# Altium footprint library PcbLib1.PcbLib: 46 footprints (part 3 of 3)
Each footprint in its own frame and in the unit in brackets; x right, y up, seen from the top. Pads: shape width x height; smd on the part's side, far side on the other; paste and mask are expansions set on the pad; w line width, h text height; cw(c..) or ccw(c..) is an arc to the next point about the centre after c.
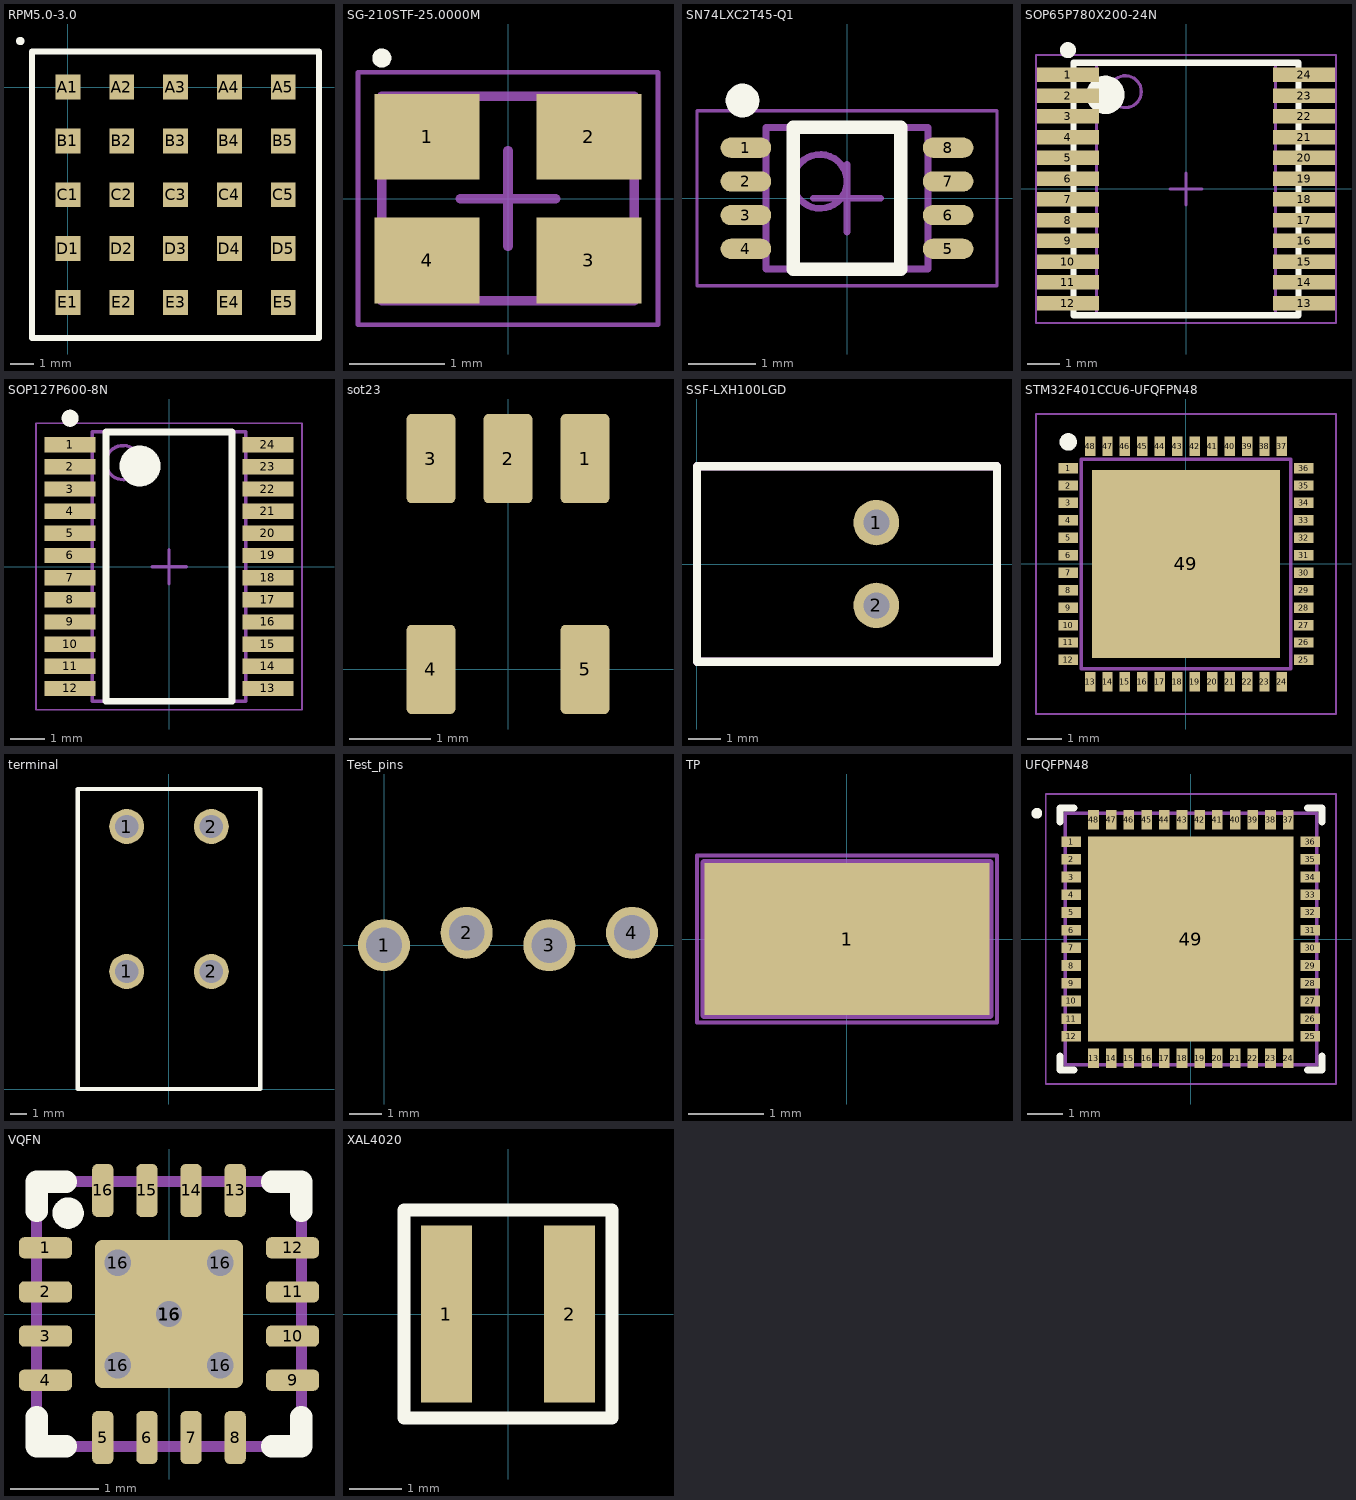
[diagram p2: the footprints below, top view; thin cyan lines are the x and y axes]

## RPM5.0-3.0 [mm]
pads (25):
  rect 1.06x1.06 smd: A1(0,0) A2(2.29,0) A3(4.58,0) A4(6.87,0) A5(9.16,0) B1(0,-2.29) B2(2.29,-2.29) B3(4.58,-2.29) B4(6.87,-2.29) B5(9.16,-2.29) C1(0,-4.58) C2(2.29,-4.58) C3(4.58,-4.58) C4(6.87,-4.58) C5(9.16,-4.58) D1(0,-6.87) D2(2.29,-6.87) D3(4.58,-6.87) D4(6.87,-6.87) D5(9.16,-6.87) E1(0,-9.16) E2(2.29,-9.16) E3(4.58,-9.16) E4(6.87,-9.16) E5(9.16,-9.16)
Top Overlay:
  circle w0.254: c-2.032,1.956 r0.05
  lines w0.254: -1.52,-10.68 10.68,-10.68 10.68,1.52 -1.52,1.52 -1.52,-10.68
Mechanical 1:
  lines w0.127: -1.52,-10.68 10.68,-10.68 10.68,1.52 -1.52,1.52 -1.52,-10.68
3D body: height 3.75, standoff 0, extent -1.52,-10.68 10.68,1.52

## SG-210STF-25.0000M [mm]
height 0.8
pads (4):
  rect 1.1x0.9 smd: 1(-0.85,0.65) 2(0.85,0.65) 3(0.85,-0.65) 4(-0.85,-0.65)
Top Overlay:
  circle w0.1: c-1.325,1.475 r0.05
Mechanical 13:
  lines w0.1: -1.325,-1.075 1.325,-1.075 1.325,1.075 -1.325,1.075 -1.325,-1.075
Mechanical 15:
  lines w0.05: -1.575,-1.325 1.575,-1.325 1.575,1.325 -1.575,1.325 -1.575,-1.325
  lines w0.1: -0.5,0 0.5,0 ; 0,-0.5 0,0.5
3D body "DFN3127P600-8N.step": height 0.8, standoff 0, extent -1.325,-1.075 1.4,1.075

## SN74LXC2T45-Q1 [mm]
height 0.9
pads (8):
  oval 0.75x0.3 smd: 1(-1.499,0.75) 2(-1.499,0.25) 3(-1.499,-0.25) 4(-1.499,-0.75) 5(1.499,-0.75) 6(1.499,-0.25) 7(1.499,0.25) 8(1.499,0.75)
Top Overlay:
  circle w0.25: c-1.55,1.45 r0.125
  lines w0.2: -0.8,-1.05 -0.8,1.05 0.8,1.05 0.8,-1.05 -0.8,-1.05
Mechanical 13:
  circle w0.1: c-0.4,0.25 r0.4
  lines w0.1: -1.2,-1.05 -1.2,1.05 1.2,1.05 1.2,-1.05 -1.2,-1.05
Mechanical 15:
  lines w0.05: -2.225,-1.3 -2.225,1.3 2.225,1.3 2.225,-1.3 -2.225,-1.3
  lines w0.1: -0.5,0 0.5,0 ; 0,-0.5 0,0.5
3D body "SN74LXC2T45-Q1.step": height 0.9, standoff 0, extent -1.549,-1.05 1.549,1.05

## SOP65P780X200-24N [mm] "SOP, 24-Leads, Body 8,20x5,30mm, Pitch 0,65mm, IPC Medium Density"
height 2
pads (24):
  rect 1.95x0.45 smd: 1(-3.7,3.575) 2(-3.7,2.925) 3(-3.7,2.275) 4(-3.7,1.625) 5(-3.7,0.975) 6(-3.7,0.325) 7(-3.7,-0.325) 8(-3.7,-0.975) 9(-3.7,-1.625) 10(-3.7,-2.275) 11(-3.7,-2.925) 12(-3.7,-3.575) 13(3.7,-3.575) 14(3.7,-2.925) 15(3.7,-2.275) 16(3.7,-1.625) 17(3.7,-0.975) 18(3.7,-0.325) 19(3.7,0.325) 20(3.7,0.975) 21(3.7,1.625) 22(3.7,2.275) 23(3.7,2.925) 24(3.7,3.575)
Top Overlay:
  circle w0.25: c-3.7,4.35 r0.125
  circle w0.6: c-2.525,2.95 r0.3
  lines w0.2: -3.525,-3.95 -3.525,3.95 3.525,3.95 3.525,-3.95 -3.525,-3.95
Mechanical 13:
  circle w0.1: c-1.9,3.05 r0.5
  lines w0.1: -2.8,-3.95 -2.8,3.95 2.8,3.95 2.8,-3.95 -2.8,-3.95
Mechanical 15:
  lines w0.05: -4.7,-4.2 -4.7,4.2 4.7,4.2 4.7,-4.2 -4.7,-4.2
  lines w0.1: -0.5,0 0.5,0 ; 0,-0.5 0,0.5
3D body "SOP65P780X200-24N.step": height 2, standoff 0, extent -3.9,-3.95 3.9,3.95

## SOP127P600-8N [mm]
height 1.2
pads (24):
  rect 1.5x0.45 smd: 1(-2.9,3.575) 2(-2.9,2.925) 3(-2.9,2.275) 4(-2.9,1.625) 5(-2.9,0.975) 6(-2.9,0.325) 7(-2.9,-0.325) 8(-2.9,-0.975) 9(-2.9,-1.625) 10(-2.9,-2.275) 11(-2.9,-2.925) 12(-2.9,-3.575) 13(2.9,-3.575) 14(2.9,-2.925) 15(2.9,-2.275) 16(2.9,-1.625) 17(2.9,-0.975) 18(2.9,-0.325) 19(2.9,0.325) 20(2.9,0.975) 21(2.9,1.625) 22(2.9,2.275) 23(2.9,2.925) 24(2.9,3.575)
Top Overlay:
  circle w0.25: c-2.9,4.35 r0.125
  circle w0.6: c-0.85,2.95 r0.3
  lines w0.2: -1.85,-3.95 -1.85,3.95 1.85,3.95 1.85,-3.95 -1.85,-3.95
Mechanical 13:
  circle w0.1: c-1.35,3.05 r0.5
  lines w0.1: -2.25,-3.95 -2.25,3.95 2.25,3.95 2.25,-3.95 -2.25,-3.95
Mechanical 15:
  lines w0.05: -3.9,-4.2 -3.9,4.2 3.9,4.2 3.9,-4.2 -3.9,-4.2
  lines w0.1: -0.5,0 0.5,0 ; 0,-0.5 0,0.5
3D body "SOP127P600-8N.step": height 1.2, standoff 0, extent -3.2,-3.95 3.2,3.95

## sot23 [mm]
pads (5):
  rrect20% 0.6x1.1 smd mask+0.01: 1(0.95,2.6) 2(0,2.6) 3(-0.95,2.6) 4(-0.95,0) 5(0.95,0)
3D body "CircuitWorks-SOT-23-5.STEP": height 1.11, standoff 0.01, extent -1.5,0.02 1.5,2.52

## SSF-LXH100LGD [mm]
pads (2):
  round 1.4 hole 0.8: 1(5.5,1.27) 2(5.5,-1.27)
Top Overlay:
  lines w0.254: 0,-3 0,3 9.2,3 9.2,-3 0,-3
Mechanical 1:
  lines w0.254: 0,-3 9.2,-3 9.2,3 0,3 0,-3
3D body: height 6, standoff 0, extent 0,-3 9.2,3

## STM32F401CCU6-UFQFPN48 [mm] "TSQFP, 48-Leads, Body 6,00x6,00mm, Pitch 0,50mm, Thermal Pad 5,40x5,40mm, IPC Medium Density"
height 0.6
pads (49):
  rect 0.55x0.3 smd mask+0.05: 1(-3.375,2.75) 2(-3.375,2.25) 3(-3.375,1.75) 4(-3.375,1.25) 5(-3.375,0.75) 6(-3.375,0.25) 7(-3.375,-0.25) 8(-3.375,-0.75) 9(-3.375,-1.25) 10(-3.375,-1.75) 11(-3.375,-2.25) 12(-3.375,-2.75) 25(3.375,-2.75) 26(3.375,-2.25) 27(3.375,-1.75) 28(3.375,-1.25) 29(3.375,-0.75) 30(3.375,-0.25) 31(3.375,0.25) 32(3.375,0.75) 33(3.375,1.25) 34(3.375,1.75) 35(3.375,2.25) 36(3.375,2.75)
  rect 0.3x0.55 smd mask+0.05: 13(-2.75,-3.375) 14(-2.25,-3.375) 15(-1.75,-3.375) 16(-1.25,-3.375) 17(-0.75,-3.375) 18(-0.25,-3.375) 19(0.25,-3.375) 20(0.75,-3.375) 21(1.25,-3.375) 22(1.75,-3.375) 23(2.25,-3.375) 24(2.75,-3.375) 37(2.75,3.375) 38(2.25,3.375) 39(1.75,3.375) 40(1.25,3.375) 41(0.75,3.375) 42(0.25,3.375) 43(-0.25,3.375) 44(-0.75,3.375) 45(-1.25,3.375) 46(-1.75,3.375) 47(-2.25,3.375) 48(-2.75,3.375)
  rect 5.4x5.4 smd mask+0.05: 49(0,0)
Top Overlay:
  circle w0.25: c-3.375,3.5 r0.125
Mechanical 13:
  circle w0.1: c-2.1,2.1 r0.5
  lines w0.1: -3,-3 3,-3 3,3 -3,3 -3,-3
Mechanical 15:
  lines w0.05: -4.3,-4.3 4.3,-4.3 4.3,4.3 -4.3,4.3 -4.3,-4.3
  lines w0.1: -0.5,0 0.5,0 ; 0,-0.5 0,0.5
3D body "STM32F401CCU6-UFQFPN48.step": height 0.6, standoff 0.01, extent -3.643,-3.643 3.643,3.643

## terminal [mm]
pads (4):
  round 2.1 hole 1.4: 1(-2.54,7.05) 1(-2.54,15.75) 2(2.54,7.05) 2(2.54,15.75)
Top Overlay:
  lines w0.254: -5.48,0 -5.48,18 5.48,18 5.48,0 -5.48,0
3D body "1017503.stp": height 19, standoff -3.5, extent -5.48,0 5.48,18

## Test_pins [mm]
pads (4):
  round 1.6 hole 1.1: 1(0,0) 2(2.54,0.381) 3(5.08,0) 4(7.62,0.381)

## TP [mm]
pads (1):
  rect 3.8x2.03 smd: 1(0,0)
Mechanical 13:
  lines w0.1: -1.905,-1.015 -1.905,1.015 1.905,1.015 1.905,-1.015 -1.905,-1.015
Mechanical 15:
  lines w0.05: -2,-1.115 2,-1.115 2,1.115 -2,1.115 -2,-1.115
  lines w0.1: -0.5,0 0.5,0 ; 0,-0.5 0,0.5
3D body "keystone-PN5019.STEP": height 2.29, standoff 0, extent -1.905,-1.015 1.905,1.017

## UFQFPN48 [mm] "QFN, 48-Leads, Body 7,00x7,00mm, Pitch 0,50mm, Thermal Pad 7x7mm, IPC Medium Density"
height 0.6
pads (49):
  rect 0.55x0.3 smd: 1(-3.375,2.75) 2(-3.375,2.25) 3(-3.375,1.75) 4(-3.375,1.25) 5(-3.375,0.75) 6(-3.375,0.25) 7(-3.375,-0.25) 8(-3.375,-0.75) 9(-3.375,-1.25) 10(-3.375,-1.75) 11(-3.375,-2.25) 12(-3.375,-2.75) 25(3.375,-2.75) 26(3.375,-2.25) 27(3.375,-1.75) 28(3.375,-1.25) 29(3.375,-0.75) 30(3.375,-0.25) 31(3.375,0.25) 32(3.375,0.75) 33(3.375,1.25) 34(3.375,1.75) 35(3.375,2.25) 36(3.375,2.75)
  rect 0.3x0.55 smd: 13(-2.75,-3.375) 14(-2.25,-3.375) 15(-1.75,-3.375) 16(-1.25,-3.375) 17(-0.75,-3.375) 18(-0.25,-3.375) 19(0.25,-3.375) 20(0.75,-3.375) 21(1.25,-3.375) 22(1.75,-3.375) 23(2.25,-3.375) 24(2.75,-3.375) 37(2.75,3.375) 38(2.25,3.375) 39(1.75,3.375) 40(1.25,3.375) 41(0.75,3.375) 42(0.25,3.375) 43(-0.25,3.375) 44(-0.75,3.375) 45(-1.25,3.375) 46(-1.75,3.375) 47(-2.25,3.375) 48(-2.75,3.375)
  rect 5.8x5.8 smd: 49(0,0)
Top Overlay:
  circle w0.25: c-4.35,3.55 r0.025
  lines w0.2: -3.7,-3.3 -3.7,-3.7 -3.3,-3.7 ; -3.7,3.3 -3.7,3.7 -3.3,3.7 ; 3.3,-3.7 3.7,-3.7 3.7,-3.3 ; 3.3,3.7 3.7,3.7 3.7,3.3
Mechanical 13:
  circle w0.1: c-2.65,2.65 r0.1
  lines w0.1: -3.55,-3.55 3.55,-3.55 3.55,3.55 -3.55,3.55 -3.55,-3.55
Mechanical 15:
  lines w0.05: -4.1,-4.1 4.1,-4.1 4.1,4.1 -4.1,4.1 -4.1,-4.1
  lines w0.1: -0.5,0 0.5,0 ; 0,-0.5 0,0.5
3D body "QFN50P700X700X60_HS-49N.step": height 0.6, standoff 0, extent -3.56,-3.56 3.56,3.56

## VQFN [mm]
pads (22):
  rrect50% 0.6x0.24 smd mask+0.07: 1(-1.4,0.75) 2(-1.4,0.25) 3(-1.4,-0.25) 4(-1.4,-0.75) 9(1.4,-0.75) 10(1.4,-0.25) 11(1.4,0.25) 12(1.4,0.75)
  rrect50% 0.24x0.6 smd mask+0.07: 5(-0.75,-1.4) 6(-0.25,-1.4) 7(0.25,-1.4) 8(0.75,-1.4) 13(0.75,1.4) 14(0.25,1.4) 15(-0.25,1.4) 16(-0.75,1.4)
  round 0.3 hole 0.3: 16(-0.58,-0.58) 16(-0.58,0.58) 16(0,0) 16(0.58,-0.58) 16(0.58,0.58)
  rrect10% 1.68x1.68 smd: 16(0,0)
Top Overlay:
  circle w0.254: c-1.143,1.143 r0.05
  lines w0.254: -1.5,-1.167 -1.5,-1.5 -1.167,-1.5 ; -1.5,1.167 -1.5,1.5 -1.167,1.5 ; 1.167,-1.5 1.5,-1.5 1.5,-1.167 ; 1.167,1.5 1.5,1.5 1.5,1.167
Mechanical 1:
  lines w0.127: -1.5,-1.5 1.5,-1.5 1.5,1.5 -1.5,1.5 -1.5,-1.5
3D body: height 1, standoff 0, extent -1.5,-1.5 1.5,1.5

## XAL4020 [mm]
pads (2):
  rect 0.98x3.4 smd: 1(-1.185,0) 2(1.185,0)
Top Overlay:
  lines w0.254: -2,-2 2,-2 2,2 -2,2 -2,-2
3D body: height 2.1, standoff 0, extent -2,-2 2,2